# EAGLE library part ATMEGA1284 (library NU STEM)
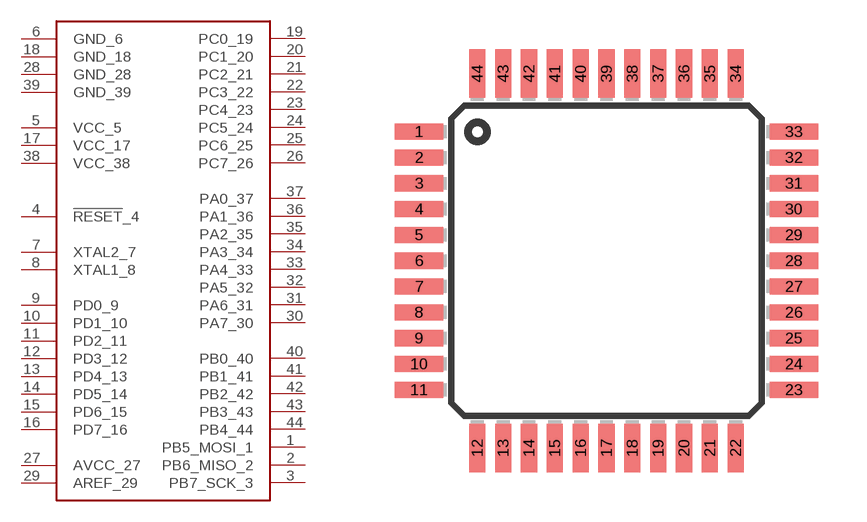
[diagram p5: symbol with the pads of TQFP44; footprint TQFP44]

Designator prefix -

## ATMEGA1284  [TQFP44]
1  PB5_MOSI_1
2  PB6_MISO_2
3  PB7_SCK_3
4  !RESET!_4
5  VCC_5
6  GND_6
7  XTAL2_7
8  XTAL1_8
9  PD0_9
10  PD1_10
11  PD2_11
12  PD3_12
13  PD4_13
14  PD5_14
15  PD6_15
16  PD7_16
17  VCC_17
18  GND_18
19  PC0_19
20  PC1_20
21  PC2_21
22  PC3_22
23  PC4_23
24  PC5_24
25  PC6_25
26  PC7_26
27  AVCC_27
28  GND_28
29  AREF_29
30  PA7_30
31  PA6_31
32  PA5_32
33  PA4_33
34  PA3_34
35  PA2_35
36  PA1_36
37  PA0_37
38  VCC_38
39  GND_39
40  PB0_40
41  PB1_41
42  PB2_42
43  PB3_43
44  PB4_44

## Footprint TQFP44 (pad centres in mm)
44-lead Thin Quad Flat Package
smd 1.5 x 0.5: 1 -5.8,4; 2 -5.8,3.2; 3 -5.8,2.4; 4 -5.8,1.6; 5 -5.8,0.8; 6 -5.8,0; 7 -5.8,-0.8; 8 -5.8,-1.6; 9 -5.8,-2.4; 10 -5.8,-3.2; 11 -5.8,-4; 23 5.8,-4; 24 5.8,-3.2; 25 5.8,-2.4; 26 5.8,-1.6; 27 5.8,-0.8; 28 5.8,0; 29 5.8,0.8; 30 5.8,1.6; 31 5.8,2.4; 32 5.8,3.2; 33 5.8,4
smd 0.5 x 1.5: 12 -4,-5.8; 13 -3.2,-5.8; 14 -2.4,-5.8; 15 -1.6,-5.8; 16 -0.8,-5.8; 17 0,-5.8; 18 0.8,-5.8; 19 1.6,-5.8; 20 2.4,-5.8; 21 3.2,-5.8; 22 4,-5.8; 34 4,5.8; 35 3.2,5.8; 36 2.4,5.8; 37 1.6,5.8; 38 0.8,5.8; 39 0,5.8; 40 -0.8,5.8; 41 -1.6,5.8; 42 -2.4,5.8; 43 -3.2,5.8; 44 -4,5.8